# Altium schematic symbol library RC0603FR-0750K5L.SchLib: 1 symbol
Pins are listed as number, name and electrical type; pins without a type are passive.

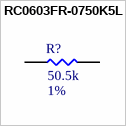
[diagram p0: symbol RC0603FR-0750K5L]

## RC0603FR-0750K5L
designator R?, comment Resistance: 50.5k  Tolerance: 1%  (hidden comment: 50.5k, 1%)
RES SMD 50.5K OHM 1% 1/10W 0603; MFR: Yageo; PN: RC0603FR-0750K5L; Footprint: RES0603; Package: 0603; ComponentLink1Description: Datasheet; Power Rating: 1/10W; Supplier 1: Mouser; Supplier Part Number 1: 603-RC0603FR-0750K5L
footprint RES0603 (Generic 0603)
pins: 1, 2